# Altium schematic symbol library n-mosfet_GxSD.Schlib: 1 symbol
Pins are listed as number, name and electrical type; pins without a type are passive.

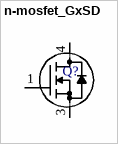
[diagram p0: symbol n-mosfet_GxSD]

## n-mosfet_GxSD
designator Q?  (value not drawn)
N-Channel MOSFET GDS w/ Body Diode for DxPAK
pins: 1 G, 3 S, 4 D